# EAGLE library part HDR-1X19 (library con-hdrs40)
HEADER CONNECTOR
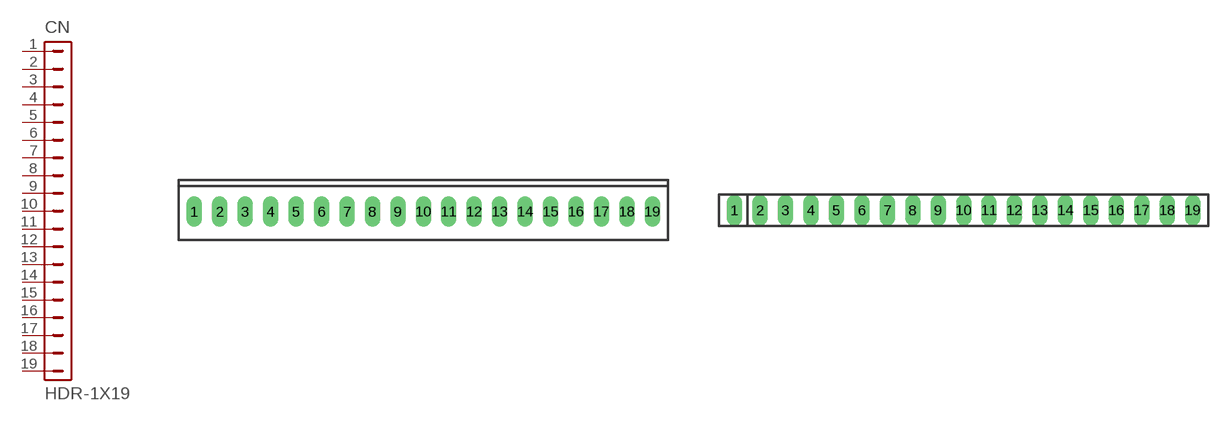
[diagram p13: symbol with the pads of MTA-100-19V; footprints MTA-100-19V, SIP-100-19V]

Designator prefix CN

## HDR-1X19-MTA-100  [MTA-100-19V]
1  1  pas
2  2  pas
3  3  pas
4  4  pas
5  5  pas
6  6  pas
7  7  pas
8  8  pas
9  9  pas
10  10  pas
11  11  pas
12  12  pas
13  13  pas
14  14  pas
15  15  pas
16  16  pas
17  17  pas
18  18  pas
19  19  pas

## HDR-1X19-SIP-100  [SIP-100-19V]
Pads as for MTA-100-19V

## Footprint MTA-100-19V (pad centres in mm)
AMP MTA Vertical .100" 19 pin
drill 1.016 long: 1 -22.86,0; 2 -20.32,0; 3 -17.78,0; 4 -15.24,0; 5 -12.7,0; 6 -10.16,0; 7 -7.62,0; 8 -5.08,0; 9 -2.54,0; 10 0,0; 11 2.54,0; 12 5.08,0; 13 7.62,0; 14 10.16,0; 15 12.7,0; 16 15.24,0; 17 17.78,0; 18 20.32,0; 19 22.86,0

## Footprint SIP-100-19V (pad centres in mm)
SIP Header Vertical 100" 19 pin
drill 1.016 long: 1 -22.86,0; 2 -20.32,0; 3 -17.78,0; 4 -15.24,0; 5 -12.7,0; 6 -10.16,0; 7 -7.62,0; 8 -5.08,0; 9 -2.54,0; 10 0,0; 11 2.54,0; 12 5.08,0; 13 7.62,0; 14 10.16,0; 15 12.7,0; 16 15.24,0; 17 17.78,0; 18 20.32,0; 19 22.86,0